# Altium schematic symbol library MT3608.SchLib: 1 symbol
Pins are listed as number, name and electrical type; pins without a type are passive.

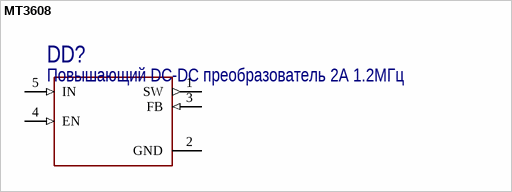
[diagram p0: symbol MT3608]

## MT3608
designator DD?, comment Повышающий DC-DC преобразователь 2А 1.2МГц
pins: 1 SW (out), 2 GND (power), 3 FB (in), 4 EN (in), 5 IN (in)